# Altium schematic symbol library Diode_1.Schlib: 1 symbol
Pins are listed as number, name and electrical type; pins without a type are passive.

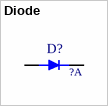
[diagram p0: symbol Diode]

## Diode
designator D?  Rated Current: ?A  (hidden comment: *)
footprint Diode_Normal
pins: 1, 2